# Altium schematic symbol library NE182UEEP6AMP.SchLib: 1 symbol
Pins are listed as number, name and electrical type; pins without a type are passive.

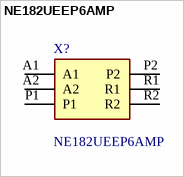
[diagram p0: symbol NE182UEEP6AMP]

## NE182UEEP6AMP
designator X?
Pushbutton Switch DPDT Standard Through Hole, Right Angle, 250 V; Manufacturer_Name: LITTELFUSE; Geometry.Height: 14.4mm; Manufacturer_Part_Number: NE182UEEP6AMP; Mouser Part Number: 611-NE182UEEP6AMP; Mouser Price/Stock: https://www.mouser.co.uk/ProductDetail/CK/NE182UEEP6AMP?qs=u2NJ%252B70r0go80sgN5CJXfg%3D%3D; Arrow Part Number: *; Arrow Price/Stock: *; Datasheet Link: https://www.littelfuse.com/assetdocs/littelfuse-c-k-pushbutton-ne18-series-datasheet?assetguid=eaa0cce0-0711-4a80-a25e-fa5683c64f06
footprint NE182UEEP6AMP
pins: A1, A2, P1, P2, R1, R2